# Altium footprint library pcblib_by_wjy.PcbLib: 111 footprints (part 7 of 7)
Each footprint in its own frame and in the unit in brackets; x right, y up, seen from the top. Pads: shape width x height; smd on the part's side, far side on the other; paste and mask are expansions set on the pad; w line width, h text height; cw(c..) or ccw(c..) is an arc to the next point about the centre after c.
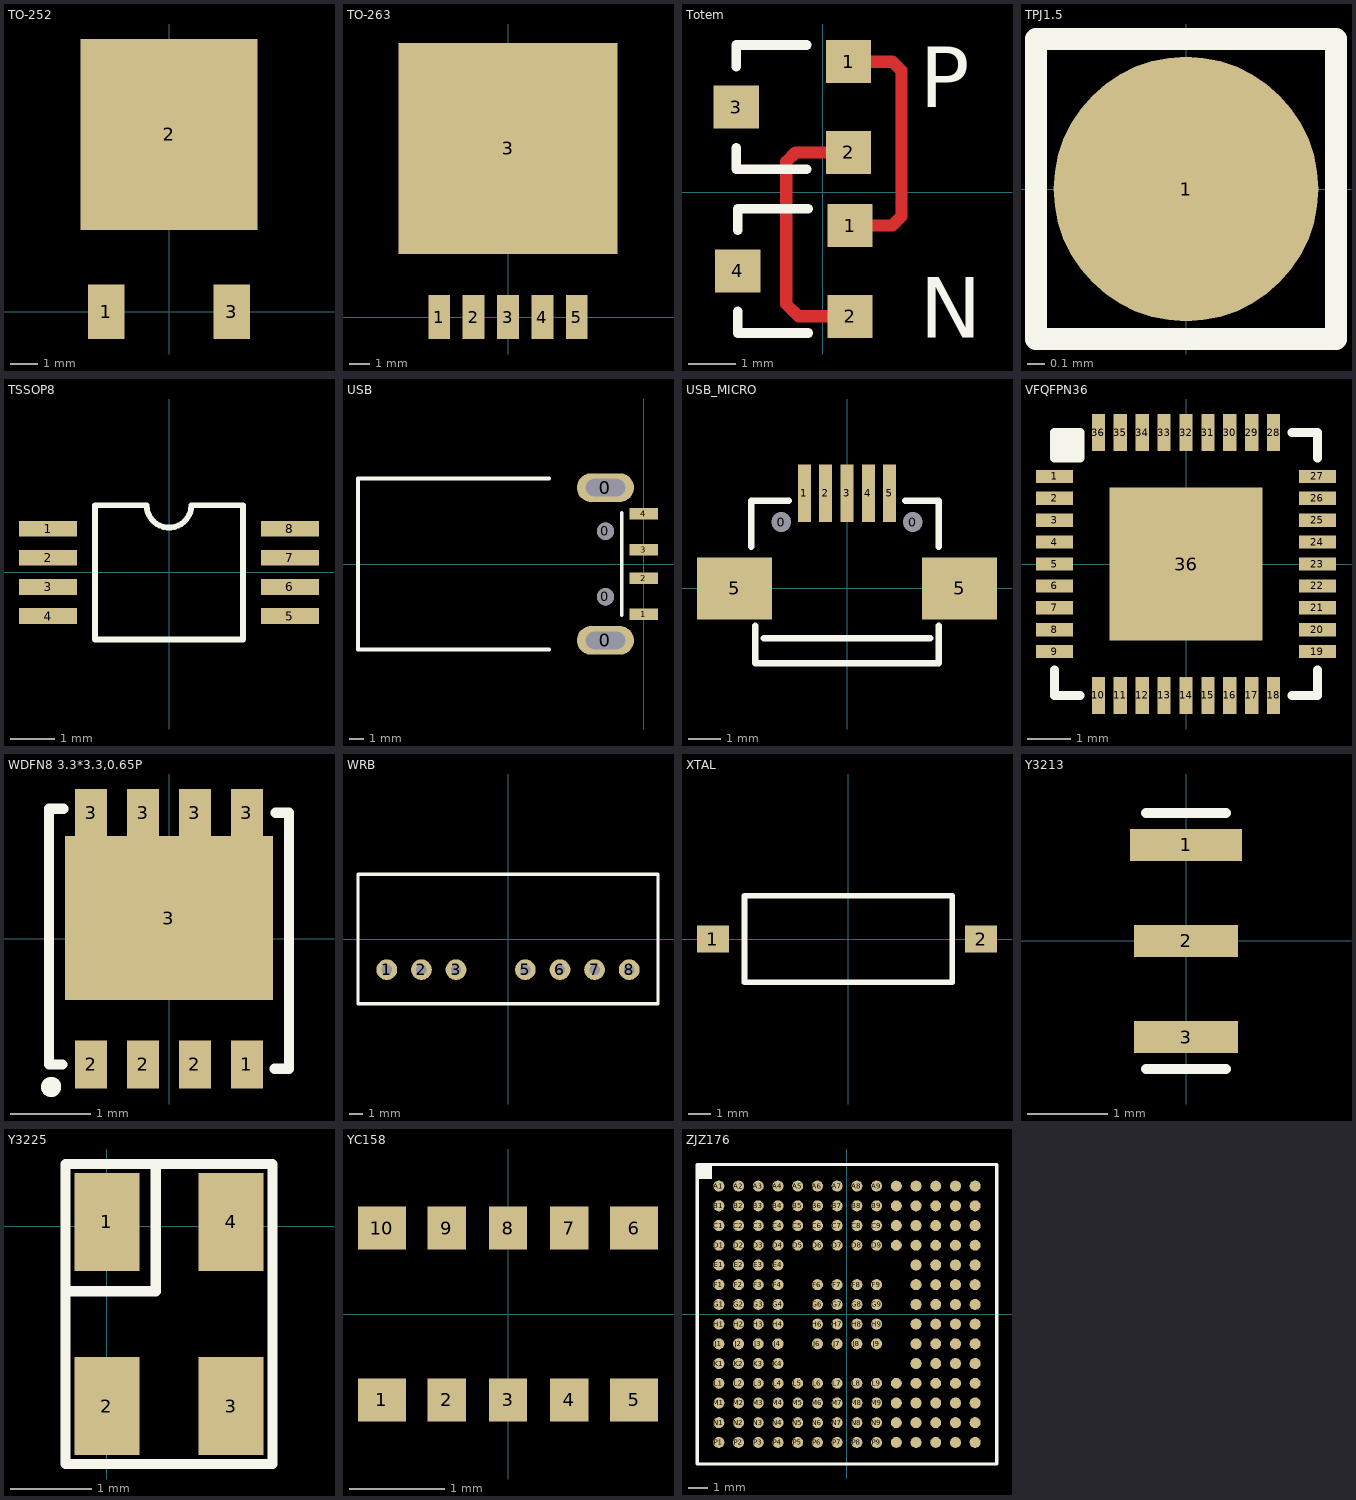
[diagram p6: the footprints below, top view; thin cyan lines are the x and y axes]

## TO-252 [mm]
pads (3):
  rect 1.35x2 smd: 1(-2.3,0) 3(2.3,0)
  rect 6.5x7 smd: 2(0,6.5)

## TO-263 [mm]
pads (6):
  rect 1.07x2.16 smd: 1(-3.4,0) 2(-1.7,0) 3(0,0) 4(1.7,0) 5(3.4,0)
  rect 10.8x10.41 smd: 3(0,8.33)

## Totem [mm] "SOT-23; 3 Leads; Body 3.1 x 2.5 mm, inc. leads (LxW max), Alternate Lead Configuration"
height 1.1
pads (6):
  rect 0.95x0.9 smd: 1(0.54,2.728) 1(0.572,-0.701) 2(0.54,0.828) 2(0.572,-2.601) 3(-1.81,1.778) 4(-1.778,-1.651)
Top Layer:
  lines w0.254: 0.54,0.828 -0.569,0.828 -0.762,0.635 -0.762,-2.347 -0.508,-2.601 0.572,-2.601 ; 0.54,2.728 1.463,2.728 1.651,2.54 1.651,-0.508 1.458,-0.701 0.572,-0.701
Top Overlay:
  lines w0.2: -1.81,0.928 -1.81,0.478 -0.335,0.478 ; -1.81,2.628 -1.81,3.078 -0.335,3.078 ; -1.778,-2.501 -1.778,-2.951 -0.303,-2.951 ; -1.778,-0.801 -1.778,-0.351 -0.303,-0.351
  text "N" at 2.032,-3.048 h1.27
  text "P" at 2.032,1.778 h1.27

## TPJ1.5 [mm]
pads (1):
  round 1.5 smd: 1(0,0)
Top Overlay:
  lines w0.127: -0.85,-0.85 0.85,-0.85 0.85,0.85 -0.85,0.85 -0.85,-0.85

## TSSOP8 [mm]
height 1.2
pads (8):
  rect 1.3x0.35 smd: 1(-2.7,0.975) 2(-2.7,0.325) 3(-2.7,-0.325) 4(-2.7,-0.975) 5(2.7,-0.975) 6(2.7,-0.325) 7(2.7,0.325) 8(2.7,0.975)
Top Overlay:
  lines w0.127: -1.651,-1.5 1.651,-1.5 1.651,1.5 0.5,1.5 cw(c0,1.5) -0.5,1.5 -1.651,1.5 -1.651,-1.5

## USB [mm]
height 4.7
pads (8):
  oval 4x2 hole 1.2 slot 2.75 at 0 deg: 0(-2.667,-5.334) 0(-2.667,5.334)
  round 1.2 hole 1.2: 0(-2.667,-2.286) 0(-2.667,2.286)
  rect 2x0.8 smd: 1(0,-3.5) 2(0,-1) 3(0,1) 4(0,3.5)
Top Overlay:
  lines w0.254: -6.604,-5.969 -19.939,-5.969 -19.939,5.969 -6.604,5.969 ; -1.524,-3.556 -1.524,3.556

## USB_MICRO [mm] "USB方孔"
height 8
pads (9):
  round 0.5 hole 0.6: 0(-2,2.023) 0(2,2.023)
  rect 0.4x1.75 smd: 1(-1.3,2.9) 2(-0.65,2.9) 3(0,2.9) 4(0.65,2.9) 5(1.3,2.9)
  rect 2.286x1.9 smd: 5(-3.429,0) 5(3.429,0)
Top Overlay:
  lines w0.2: -2.921,1.27 -2.921,2.667 -1.778,2.667 ; -2.794,-1.143 -2.794,-2.286 2.794,-2.286 2.794,-1.143 ; -2.54,-1.524 2.54,-1.524 ; 1.778,2.667 2.794,2.667 2.794,1.27

## VFQFPN36 [mm]
pads (37):
  rect 0.85x0.3 smd: 1(-3,2) 2(-3,1.5) 3(-3,1) 4(-3,0.5) 5(-3,0) 6(-3,-0.5) 7(-3,-1) 8(-3,-1.5) 9(-3,-2) 19(3,-2) 20(3,-1.5) 21(3,-1) 22(3,-0.5) 23(3,0) 24(3,0.5) 25(3,1) 26(3,1.5) 27(3,2)
  rect 0.3x0.85 smd: 10(-2,-3) 11(-1.5,-3) 12(-1,-3) 13(-0.5,-3) 14(0,-3) 15(0.5,-3) 16(1,-3) 17(1.5,-3) 18(2,-3) 28(2,3) 29(1.5,3) 30(1,3) 31(0.5,3) 32(0,3) 33(-0.5,3) 34(-1,3) 35(-1.5,3) 36(-2,3)
  rect 3.5x3.5 smd: 36(0,0)
Top Overlay:
  lines w0.2: -3,-2.413 -3,-3 -2.413,-3 ; -2.921,2.413 -2.921,3 ; -2.794,2.413 -2.794,3 ; -2.667,2.413 -2.667,3 ; -2.54,2.413 -2.54,3 ; 2.413,-3 3,-3 3,-2.413 ; 2.413,3 3,3 3,2.413 ; -3,2.413 -3,3 -2.413,3 -2.413,2.413 -3,2.413

## WDFN8 3.3*3.3,0.65P [mm] "EMB06N03V"
height 0.8
pads (9):
  rect 0.4x0.6 smd: 1(0.975,-1.572) 2(-0.975,-1.572) 2(-0.325,-1.572) 2(0.325,-1.572) 3(-0.975,1.572) 3(-0.325,1.572) 3(0.325,1.572) 3(0.975,1.572)
  rect 2.6x2.05 smd: 3(-0.001,0.258)
Top Overlay:
  circle w0.2: c-1.473,-1.854 r0.025
  lines w0.127: -1.5,1.626 -1.5,-1.575 -1.331,-1.574 ; -1.499,1.626 -1.321,1.626 ; 1.321,-1.626 1.499,-1.626 ; 1.331,1.574 1.5,1.575 1.5,-1.626
3D body: height 0.9, standoff 0, extent -1.474,-1.474 1.525,1.525

## WRB [mil]
pads (7):
  round 60 hole 30: 1(-350,-88.58) 2(-250,-88.58) 3(-150,-88.58) 5(50,-88.58) 6(150,-88.58) 7(250,-88.58) 8(350,-88.58)
Top Overlay:
  lines w10: -433.07,-187.01 -433.07,187.01 433.07,187.01 433.07,-187.01 -433.07,-187.01

## XTAL [mm]
pads (2):
  rect 1.4x1.2 smd: 1(-5.969,0) 2(5.842,0)
Top Overlay:
  lines w0.254: -4.572,-1.905 -4.572,1.905 4.572,1.905 4.572,-1.905 -4.572,-1.905

## Y3213 [mm]
pads (3):
  rect 1.4x0.4 smd: 1(0,1.2)
  rect 1.3x0.4 smd: 2(0,0) 3(0,-1.2)
Top Overlay:
  lines w0.127: -0.5,-1.6 0.5,-1.6 ; -0.5,1.6 0.5,1.6

## Y3225 [mm]
pads (4):
  rect 0.8x1.2 smd: 1(0,0.051) 2(0,-2.21) 3(1.524,-2.21) 4(1.524,0.051)
Top Overlay:
  lines w0.127: -0.508,-0.8 0.6,-0.8 0.6,0.762 ; -0.508,-2.921 2.032,-2.921 2.032,0.762 -0.508,0.762 -0.508,-2.921

## YC158 [mm]
height 0.6
pads (10):
  rect 0.5x0.45 smd: 1(-1.32,-0.9) 5(1.32,-0.9) 6(1.32,0.9) 10(-1.32,0.9)
  rect 0.4x0.45 smd: 2(-0.64,-0.9) 3(0,-0.9) 4(0.64,-0.9) 7(0.64,0.9) 8(0,0.9) 9(-0.64,0.9)

## ZJZ176 [mm]
pads (176):
  round 0.559 smd: A1(-6.5,6.5) A2(-5.5,6.5) A3(-4.5,6.5) A4(-3.5,6.5) A5(-2.5,6.5) A6(-1.5,6.5) A7(-0.5,6.5) A8(0.5,6.5) A9(1.5,6.5) A10(2.5,6.5) A11(3.5,6.5) A12(4.5,6.5) A13(5.5,6.5) A14(6.5,6.5) B1(-6.5,5.5) B2(-5.5,5.5) B3(-4.5,5.5) B4(-3.5,5.5) B5(-2.5,5.5) B6(-1.5,5.5) B7(-0.5,5.5) B8(0.5,5.5) B9(1.5,5.5) B10(2.5,5.5) B11(3.5,5.5) B12(4.5,5.5) B13(5.5,5.5) B14(6.5,5.5) C1(-6.5,4.5) C2(-5.5,4.5) C3(-4.5,4.5) C4(-3.5,4.5) C5(-2.5,4.5) C6(-1.5,4.5) C7(-0.5,4.5) C8(0.5,4.5) C9(1.5,4.5) C10(2.5,4.5) C11(3.5,4.5) C12(4.5,4.5) C13(5.5,4.5) C14(6.5,4.5) D1(-6.5,3.5) D2(-5.5,3.5) D3(-4.5,3.5) D4(-3.5,3.5) D5(-2.5,3.5) D6(-1.5,3.5) D7(-0.5,3.5) D8(0.5,3.5) D9(1.5,3.5) D10(2.5,3.5) D11(3.5,3.5) D12(4.5,3.5) D13(5.5,3.5) D14(6.5,3.5) E1(-6.5,2.5) E2(-5.5,2.5) E3(-4.5,2.5) E4(-3.5,2.5) E11(3.5,2.5) E12(4.5,2.5) E13(5.5,2.5) E14(6.5,2.5) F1(-6.5,1.5) F2(-5.5,1.5) F3(-4.5,1.5) F4(-3.5,1.5) F6(-1.5,1.5) F7(-0.5,1.5) F8(0.5,1.5) F9(1.5,1.5) F11(3.5,1.5) F12(4.5,1.5) F13(5.5,1.5) F14(6.5,1.5) G1(-6.5,0.5) G2(-5.5,0.5) G3(-4.5,0.5) G4(-3.5,0.5) G6(-1.5,0.5) G7(-0.5,0.5) G8(0.5,0.5) G9(1.5,0.5) G11(3.5,0.5) G12(4.5,0.5) G13(5.5,0.5) G14(6.5,0.5) H1(-6.5,-0.5) H2(-5.5,-0.5) H3(-4.5,-0.5) H4(-3.5,-0.5) H6(-1.5,-0.5) H7(-0.5,-0.5) H8(0.5,-0.5) H9(1.5,-0.5) H11(3.5,-0.5) H12(4.5,-0.5) H13(5.5,-0.5) H14(6.5,-0.5) J1(-6.5,-1.5) J2(-5.5,-1.5) J3(-4.5,-1.5) J4(-3.5,-1.5) J6(-1.5,-1.5) J7(-0.5,-1.5) J8(0.5,-1.5) J9(1.5,-1.5) J11(3.5,-1.5) J12(4.5,-1.5) J13(5.5,-1.5) J14(6.5,-1.5) K1(-6.5,-2.5) K2(-5.5,-2.5) K3(-4.5,-2.5) K4(-3.5,-2.5) K11(3.5,-2.5) K12(4.5,-2.5) K13(5.5,-2.5) K14(6.5,-2.5) L1(-6.5,-3.5) L2(-5.5,-3.5) L3(-4.5,-3.5) L4(-3.5,-3.5) L5(-2.5,-3.5) L6(-1.5,-3.5) L7(-0.5,-3.5) L8(0.5,-3.5) L9(1.5,-3.5) L10(2.5,-3.5) L11(3.5,-3.5) L12(4.5,-3.5) L13(5.5,-3.5) L14(6.5,-3.5) M1(-6.5,-4.5) M2(-5.5,-4.5) M3(-4.5,-4.5) M4(-3.5,-4.5) M5(-2.5,-4.5) M6(-1.5,-4.5) M7(-0.5,-4.5) M8(0.5,-4.5) M9(1.5,-4.5) M10(2.5,-4.5) M11(3.5,-4.5) M12(4.5,-4.5) M13(5.5,-4.5) M14(6.5,-4.5) N1(-6.5,-5.5) N2(-5.5,-5.5) N3(-4.5,-5.5) N4(-3.5,-5.5) N5(-2.5,-5.5) N6(-1.5,-5.5) N7(-0.5,-5.5) N8(0.5,-5.5) N9(1.5,-5.5) N10(2.5,-5.5) N11(3.5,-5.5) N12(4.5,-5.5) N13(5.5,-5.5) N14(6.5,-5.5) P1(-6.5,-6.5) P2(-5.5,-6.5) P3(-4.5,-6.5) P4(-3.5,-6.5) P5(-2.5,-6.5) P6(-1.5,-6.5) P7(-0.5,-6.5) P8(0.5,-6.5) P9(1.5,-6.5) P10(2.5,-6.5) P11(3.5,-6.5) P12(4.5,-6.5) P13(5.5,-6.5) P14(6.5,-6.5)
Top Overlay:
  rectangle: -7.595,6.858 -6.858,7.62
  lines w0.152: -7.595,7.095 -7.095,7.595 ; -7.595,-7.595 7.595,-7.595 7.595,7.595 -7.595,7.595 -7.595,-7.595
3D body "ZJZ176.stp": height 2.06, standoff 0, extent -7.595,-7.595 7.595,7.595